# Altium schematic symbol library parallella_schematic_Library.SchLib: 113 symbols (part 3 of 3)
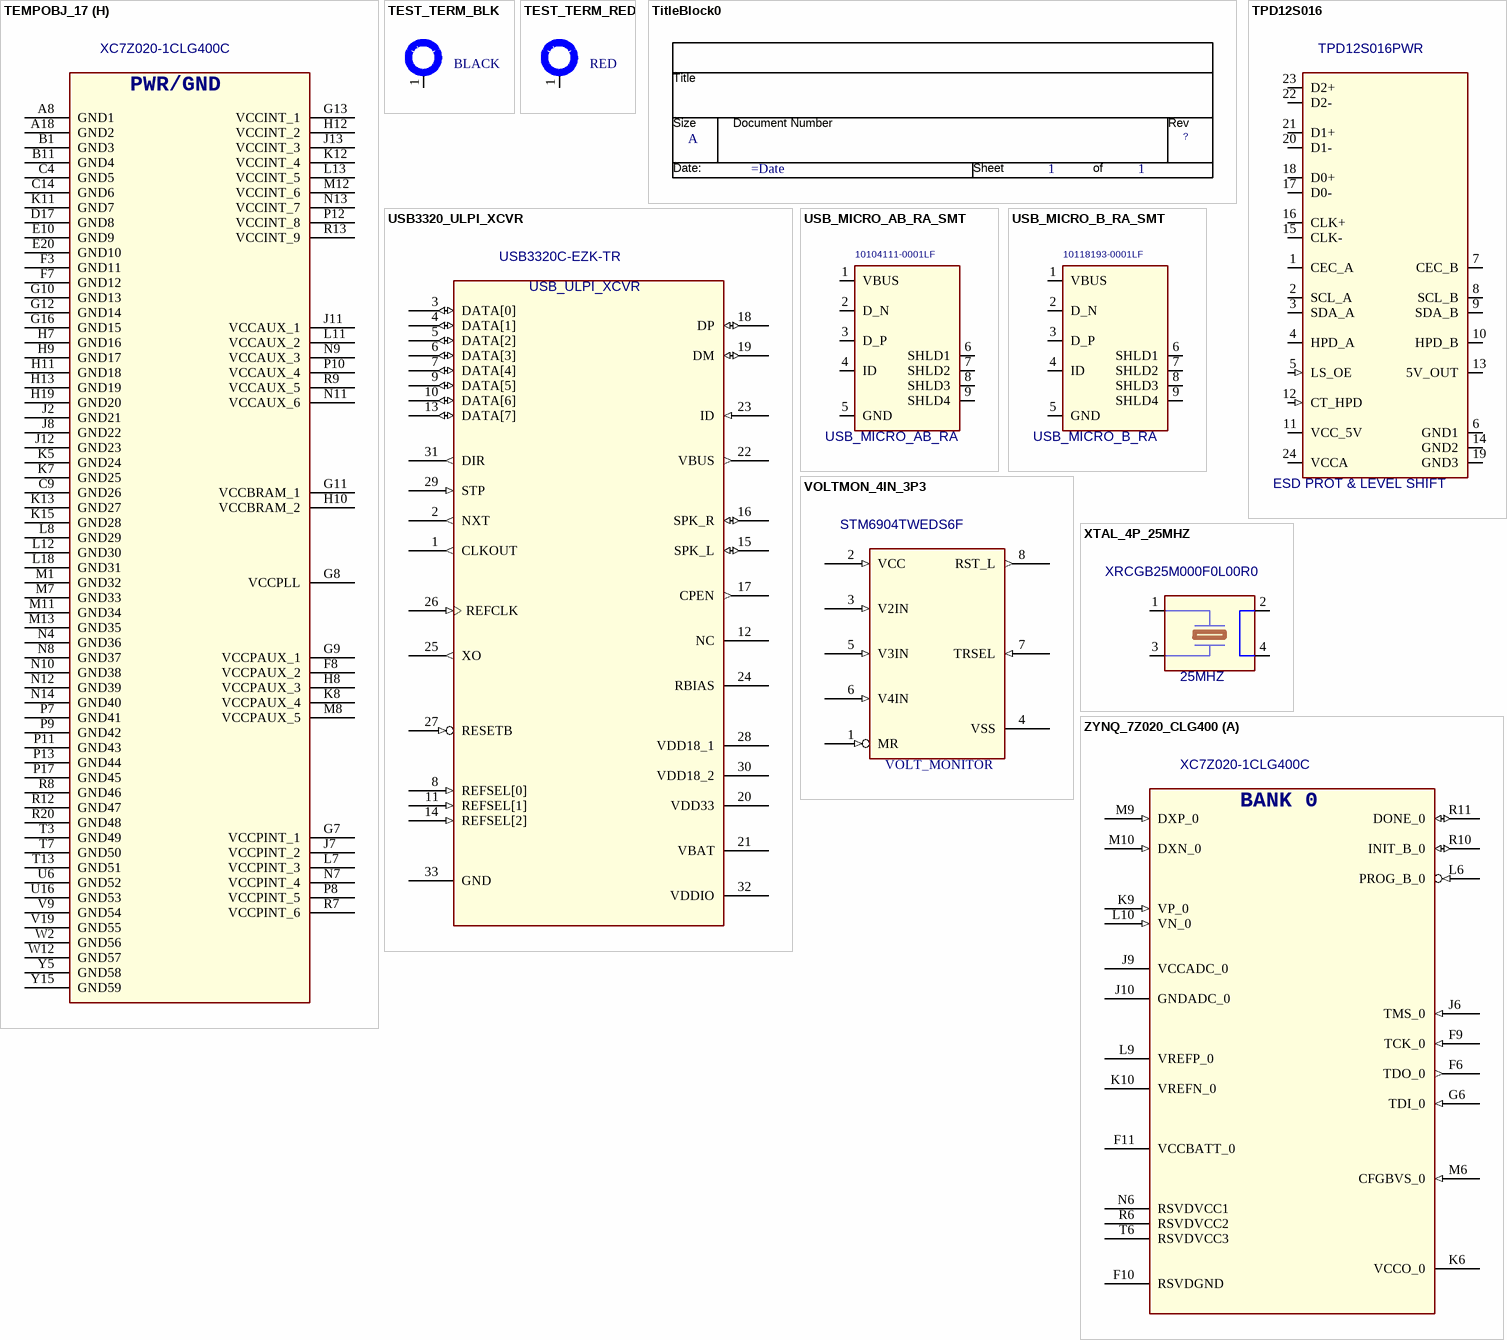
[diagram p25: symbols TEMPOBJ_17 to ZYNQ_7Z020_CLG400]

## TEMPOBJ_17
designator U?, comment Vendor PN: XC7Z020-1CLG400C  (hidden comment: 7Z020-CLG400)
IC, EPP, XILINX, ZYNQ, 7Z020, CLG400; SPLIT_INST: TRUE; DEVICE: ZYNQ_7Z020_CLG400; Vendor: XILINX
footprint CBGA400_17SQ_1P6H_P8MMP
part A pins: F6 TDO_0 (out), F9 TCK_0 (in), F10 RSVDGND (power), F11 VCCBATT_0 (power), G6 TDI_0 (in), J6 TMS_0 (in), J9 VCCADC_0 (power), J10 GNDADC_0 (power), K6 VCCO_0 (power), K9 VP_0 (in), K10 VREFN_0 (power), L6 PROG_B_0 (in), L9 VREFP_0 (power), L10 VN_0 (in), M6 CFGBVS_0 (in), M9 DXP_0 (in), M10 DXN_0 (in), N6 RSVDVCC1, R6 RSVDVCC2, R10 INIT_B_0 (io), R11 DONE_0 (io), T6 RSVDVCC3
part B pins: A5 PS_MIO6 (io), A6 PS_MIO5 (io), A7 PS_MIO1 (io), B5 PS_MIO9 (io), B6 VCCO_MIO0_1 (power), B7 PS_MIO4 (io), B8 PS_MIO2 (io), C5 PS_MIO14 (io), C6 PS_MIO11 (io), C7 PS_POR_B (in), C8 PS_MIO15 (io), D5 PS_MIO8 (io), D6 PS_MIO3 (io), D7 VCCO_MIO0_2 (power), D8 PS_MIO7 (io), D9 PS_MIO12 (io), E6 PS_MIO0 (io), E7 PS_CLK (in), E8 PS_MIO13 (io), E9 PS_MIO10 (io)
part C pins: A9 PS_MIO43 (io), A10 PS_MIO37 (io), A11 PS_MIO36 (io), A12 PS_MIO34 (io), A13 VCCO_MIO1_1 (power), A14 PS_MIO32 (io), A15 PS_MIO26 (io), A16 PS_MIO24 (io), A17 PS_MIO20 (io), A19 PS_MIO16 (io), B9 PS_MIO51 (io), B10 PS_SRST_B (in), B12 PS_MIO48 (io), B13 PS_MIO50 (io), B14 PS_MIO47 (io), B15 PS_MIO45 (io), B16 VCCO_MIO1_2 (power), B17 PS_MIO22 (io), B18 PS_MIO18 (io), C10 PS_MIO52 (io), C11 PS_MIO53 (io), C12 PS_MIO49 (io), C13 PS_MIO29 (io), C15 PS_MIO30 (io), C16 PS_MIO28 (io), C17 PS_MIO41 (io), C18 PS_MIO39 (io), D10 PS_MIO19 (io), D11 PS_MIO23 (io), D12 VCCO_MIO1_3 (power), D13 PS_MIO27 (io), D14 PS_MIO40 (io), D15 PS_MIO33 (io), D16 PS_MIO46 (io), E11 PS_MIO_VREF_501 (power), E12 PS_MIO42 (io), E13 PS_MIO38 (io), E14 PS_MIO17 (io), E15 VCCO_MIO1_4 (power), E16 PS_MIO31 (io), F12 PS_MIO35 (io), F13 PS_MIO44 (io), F14 PS_MIO21 (io), F15 PS_MIO25 (io)
part D pins: A1 PS_DDR_DM0 (out), A2 PS_DDR_DQ2 (io), A3 VCCO_DDR_1 (power), A4 PS_DDR_DQ3 (io), B2 PS_DDR_DQS_N0 (io), B3 PS_DDR_DQ1 (io), B4 PS_DDR_DRST_B (out), C1 PS_DDR_DQ6 (io), C2 PS_DDR_DQS_P0 (io), C3 PS_DDR_DQ0 (io), D1 PS_DDR_DQ5 (io), D2 VCCO_DDR_2 (power), D3 PS_DDR_DQ4 (io), D4 PS_DDR_A13 (out), E1 PS_DDR_DQ7 (io), E2 PS_DDR_DQ8 (io), E3 PS_DDR_DQ9 (io), E4 PS_DDR_A12 (out), E5 VCCO_DDR_3 (power), F1 PS_DDR_DM1 (out), F2 PS_DDR_DQS_N1 (io), F4 PS_DDR_A14 (out), F5 PS_DDR_A10 (out), G1 VCCO_DDR_4 (power), G2 PS_DDR_DQS_P1 (io), G3 PS_DDR_DQ10 (io), G4 PS_DDR_A11 (out), G5 PS_DDR_VRN (power), H1 PS_DDR_DQ14 (io), H2 PS_DDR_DQ13 (io), H3 PS_DDR_DQ11 (io), H4 VCCO_DDR_5 (power), H5 PS_DDR_VRP (power), H6 PS_DDR_VREF0 (power), J1 PS_DDR_DQ15 (io), J3 PS_DDR_DQ12 (io), J4 PS_DDR_A9 (out), J5 PS_DDR_BA2 (out), K1 PS_DDR_A8 (out), K2 PS_DDR_A1 (out), K3 PS_DDR_A3 (out), K4 PS_DDR_A7 (out), L1 PS_DDR_A5 (out), L2 PS_DDR_CKP (out), L3 VCCO_DDR_6 (power), L4 PS_DDR_A6 (out), L5 PS_DDR_BA0 (out), M2 PS_DDR_CKN (out), M3 PS_DDR_A2 (out), M4 PS_DDR_A4 (out), M5 PS_DDR_WE_B (out), N1 PS_DDR_CS_B (out), N2 PS_DDR_A0 (out), N3 PS_DDR_CKE (out), N5 PS_DDR_ODT (out), P1 PS_DDR_DQ16 (io), P2 VCCO_DDR_7 (power), P3 PS_DDR_DQ17 (io), P4 PS_DDR_RAS_B (out), P5 PS_DDR_CAS_B (out), P6 PS_DDR_VREF1 (power), R1 PS_DDR_DQ19 (io), R2 PS_DDR_DQS_P2 (io), R3 PS_DDR_DQ18 (io), R4 PS_DDR_BA1 (out), R5 VCCO_DDR_8 (power), T1 PS_DDR_DM2 (out), T2 PS_DDR_DQS_N2 (io), T4 PS_DDR_DQ20 (io), U1 VCCO_DDR_9 (power), U2 PS_DDR_DQ22 (io), U3 PS_DDR_DQ23 (io), U4 PS_DDR_DQ21 (io), V1 PS_DDR_DQ24 (io), V2 PS_DDR_DQ30 (io), V3 PS_DDR_DQ31 (io), V4 VCCO_DDR_10 (power), W1 PS_DDR_DQ26 (io), W3 PS_DDR_DQ29 (io), W4 PS_DDR_DQS_N3 (io), W5 PS_DDR_DQS_P3 (io), Y1 PS_DDR_DM3 (out), Y2 PS_DDR_DQ28 (io), Y3 PS_DDR_DQ25 (io), Y4 PS_DDR_DQ27 (io)
part E pins: T5 IO_L19P_T3_13 (io), T8 VCCO_13_1 (power), T9 IO_L12P_T1_MRCC_13 (io), U5 IO_L19N_T3_VREF_13 (io), U7 IO_L11P_T1_SRCC_13 (io), U8 IO_L17N_T2_13 (io), U9 IO_L17P_T2_13 (io), U10 IO_L12N_T1_MRCC_13 (io), U11 VCCO_13_2 (power), V5 IO_L6N_T0_VREF_13 (io), V6 IO_L22P_T3_13 (io), V7 IO_L11N_T1_SRCC_13 (io), V8 IO_L15P_T2_DQS_13 (io), V10 IO_L21N_T3_DQS_13 (io), V11 IO_L21P_T3_DQS_13 (io), W6 IO_L22N_T3_13 (io), W7 VCCO_13_3 (power), W8 IO_L15N_T2_DQS_13 (io), W9 IO_L16N_T2_13 (io), W10 IO_L16P_T2_13 (io), W11 IO_L18P_T2_13 (io), Y6 IO_L13N_T2_MRCC_13 (io), Y7 IO_L13P_T2_MRCC_13 (io), Y8 IO_L14N_T2_SRCC_13 (io), Y9 IO_L14P_T2_SRCC_13 (io), Y10 VCCO_13_4 (power), Y11 IO_L18N_T2_13 (io), Y12 IO_L20P_T3_13 (io), Y13 IO_L20N_T3_13 (io)
part F pins: N17 IO_L23P_T3_34 (io), N18 IO_L13P_T2_MRCC_34 (io), N19 VCCO_34_1 (power), N20 IO_L14P_T2_SRCC_34 (io), P14 IO_L6P_T0_34 (io), P15 IO_L24P_T3_34 (io), P16 IO_L24N_T3_34 (io), P18 IO_L23N_T3_34 (io), P19 IO_L13N_T2_MRCC_34 (io), P20 IO_L14N_T2_SRCC_34 (io), R14 IO_L6N_T0_VREF_34 (io), R15 VCCO_34_2 (power), R16 IO_L19P_T3_34 (io), R17 IO_L19N_T3_VREF_34 (io), R18 IO_L20N_T3_34 (io), R19 IO_0_34 (io), T10 IO_L1N_T0_34 (io), T11 IO_L1P_T0_34 (io), T12 IO_L2P_T0_34 (io), T14 IO_L5P_T0_34 (io), T15 IO_L5N_T0_34 (io), T16 IO_L9P_T1_DQS_34 (io), T17 IO_L20P_T3_34 (io), T18 VCCO_34_3 (power), T19 IO_25_34 (io), T20 IO_L15P_T2_DQS_34 (io), U12 IO_L2N_T0_34 (io), U13 IO_L3P_T0_DQS_PUDC_B_34 (io), U14 IO_L11P_T1_SRCC_34 (io), U15 IO_L11N_T1_SRCC_34 (io), U17 IO_L9N_T1_DQS_34 (io), U18 IO_L12P_T1_MRCC_34 (io), U19 IO_L12N_T1_MRCC_34 (io), U20 IO_L15N_T2_DQS_34 (io), V12 IO_L4P_T0_34 (io), V13 IO_L3N_T0_DQS_34 (io), V14 VCCO_34_4 (power), V15 IO_L10P_T1_34 (io), V16 IO_L18P_T2_34 (io), V17 IO_L21P_T3_DQS_34 (io), V18 IO_L21N_T3_DQS_34 (io), V20 IO_L16P_T2_34 (io), W13 IO_L4N_T0_34 (io), W14 IO_L8P_T1_34 (io), W15 IO_L10N_T1_34 (io), W16 IO_L18N_T2_34 (io), W17 VCCO_34_5 (power), W18 IO_L22P_T3_34 (io), W19 IO_L22N_T3_34 (io), W20 IO_L16N_T2_34 (io), Y14 IO_L8N_T1_34 (io), Y16 IO_L7P_T1_34 (io), Y17 IO_L7N_T1_34 (io), Y18 IO_L17P_T2_34 (io), Y19 IO_L17N_T2_34 (io), Y20 VCCO_34_6 (power)
part G pins: A20 IO_L2N_T0_AD8N_35 (io), B19 IO_L2P_T0_AD8P_35 (io), B20 IO_L1N_T0_AD0N_35 (io), C19 VCCO_35_1 (power), C20 IO_L1P_T0_AD0P_35 (io), D18 IO_L3N_T0_DQS_AD1N_35 (io), D19 IO_L4P_T0_35 (io), D20 IO_L4N_T0_35 (io), E17 IO_L3P_T0_DQS_AD1P_35 (io), E18 IO_L5P_T0_AD9P_35 (io), E19 IO_L5N_T0_AD9N_35 (io), F16 IO_L6P_T0_35 (io), F17 IO_L6N_T0_VREF_35 (io), F18 VCCO_35_2 (power), F19 IO_L15P_T2_DQS_AD12P_35 (io), F20 IO_L15N_T2_DQS_AD12N_35 (io), G14 IO_0_35 (io), G15 IO_L19N_T3_VREF_35 (io), G17 IO_L16P_T2_35 (io), G18 IO_L16N_T2_35 (io), G19 IO_L18P_T2_AD13P_35 (io), G20 IO_L18N_T2_AD13N_35 (io), H14 VCCO_35_3 (power), H15 IO_L19P_T3_35 (io), H16 IO_L13P_T2_MRCC_35 (io), H17 IO_L13N_T2_MRCC_35 (io), H18 IO_L14N_T2_AD4N_SRCC_35 (io), H20 IO_L17N_T2_AD5N_35 (io), J14 IO_L20N_T3_AD6N_35 (io), J15 IO_25_34 (io), J16 IO_L24N_T3_AD15N_35 (io), J17 VCCO_35_4 (power), J18 IO_L14P_T2_AD4P_SRCC_35 (io), J19 IO_L10N_T1_AD11N_35 (io), J20 IO_L17P_T2_AD5P_35 (io), K14 IO_L20P_T3_AD6P_35 (io), K16 IO_L24P_T3_AD15P_35 (io), K17 IO_L12P_T1_MRCC_35 (io), K18 IO_L12N_T1_MRCC_35 (io), K19 IO_L10P_T1_AD11P_35 (io), K20 VCCO_35_5 (power), L14 IO_L22P_T3_AD7P_35 (io), L15 IO_L22N_T3_AD7N_35 (io), L16 IO_L11P_T1_SRCC_35 (io), L17 IO_L11N_T1_SRCC_35 (io), L19 IO_L9P_T1_DQS_AD3P_35 (io), L20 IO_L9N_T1_DQS_AD3N_35 (io), M14 IO_L23P_T3_35 (io), M15 IO_L23N_T3_35 (io), M16 VCCO_35_6 (power), M17 IO_L8P_T1_AD10P_35 (io), M18 IO_L8N_T1_AD10N_35 (io), M19 IO_L7P_T1_AD2P_35 (io), M20 IO_L7N_T1_AD2N_35 (io), N15 IO_L21P_T3_DQS_AD14P_35 (io), N16 IO_L21N_T3_DQS_AD14N_35 (io)
part H pins: A8 GND1 (power), A18 GND2 (power), B1 GND3 (power), B11 GND4 (power), C4 GND5 (power), C9 GND26 (power), C14 GND6 (power), D17 GND8 (power), E10 GND9 (power), E20 GND10 (power), F3 GND11 (power), F7 GND12 (power), F8 VCCPAUX_2 (power), G7 VCCPINT_1 (power), G8 VCCPLL (power), G9 VCCPAUX_1 (power), G10 GND13 (power), G11 VCCBRAM_1 (power), G12 GND14 (power), G13 VCCINT_1 (power), G16 GND15 (power), H7 GND16 (power), H8 VCCPAUX_3 (power), H9 GND17 (power), H10 VCCBRAM_2 (power), H11 GND18 (power), H12 VCCINT_2 (power), H13 GND19 (power), H19 GND20 (power), J2 GND21 (power), J7 VCCPINT_2 (power), J8 GND22 (power), J11 VCCAUX_1 (power), J12 GND23 (power), J13 VCCINT_3 (power), K5 GND24 (power), K7 GND25 (power), K8 VCCPAUX_4 (power), K11 GND7 (power), K12 VCCINT_4 (power), K13 GND27 (power), K15 GND28 (power), L7 VCCPINT_3 (power), L8 GND29 (power), L11 VCCAUX_2 (power), L12 GND30 (power), L13 VCCINT_5 (power), L18 GND31 (power), M1 GND32 (power), M7 GND33 (power), M8 VCCPAUX_5 (power), M11 GND34 (power), M12 VCCINT_6 (power), M13 GND35 (power), N4 GND36 (power), N7 VCCPINT_4 (power), N8 GND37 (power), N9 VCCAUX_3 (power), N10 GND38 (power), N11 VCCAUX_6 (power), N12 GND39 (power), N13 VCCINT_7 (power), N14 GND40 (power), P7 GND41 (power), P8 VCCPINT_5 (power), P9 GND42 (power), P10 VCCAUX_4 (power), P11 GND43 (power), P12 VCCINT_8 (power), P13 GND44 (power), P17 GND45 (power), R7 VCCPINT_6 (power), R8 GND46 (power), R9 VCCAUX_5 (power), R12 GND47 (power), R13 VCCINT_9 (power), R20 GND48 (power), T3 GND49 (power), T7 GND50 (power), T13 GND51 (power), U6 GND52 (power), U16 GND53 (power), V9 GND54 (power), V19 GND55 (power), W2 GND56 (power), W12 GND57 (power), Y5 GND58 (power), Y15 GND59 (power)
part A text: BANK 0
part B text: BANK 500; QSPI; SDIO
part C text: BANK 501; Ethernet 0 RGMII; USB0/ Ethernet1; USB1
part D text: BANK 502
part E text: BANK 13
part F text: BANK 34
part G text: BANK 35
part H text: PWR/GND

## TEST_TERM_BLK
designator TP?, comment BLACK
PC Test Point Miniature; Vendor PN: 5001; Vendor: Keystone; CLASS: IC; DEVICE: TEST_TERM_BLK; MFG: KEYSTONE; MFG PART NO: 5001
footprint TP55
pins: 1

## TEST_TERM_RED
designator TP?, comment RED
PC TEST POINT MINIATURE; MFG PART NO: 5000; MFG: KEYSTONE; DEVICE: TEST_TERM_RED; CLASS: IC; Vendor: KEYSTONE; Vendor PN: 5000
footprint TP55
pins: 1

## TitleBlock0
designator *  Page Size: A  Page Number: 1  (hidden comment: *)  (graphical)
Page Create Date: March  8, 1995; RevCode: ?; Page Count: 1; Page Modify Date: =Date
text: Title; Size; Document Number; Rev; Date:; Sheet; of

## TPD12S016
designator U?, comment ESD PROT & LEVEL SHIFT  MFG PART NO: TPD12S016PWR
IC, HDMI ESD PROT AND LEVEL SHIFT, TSSOP24; Vendor: TEXAS INSTRUMENTS; DEVICE: TPD12S016; Vendor PN: TPD12S016PWR; MFG: TEXAS INSTRUMENTS
footprint TSSOP24_6P4X7P9X1P2MMH_P65P
pins: 1 CEC_A (io), 2 SCL_A (io), 3 SDA_A (io), 4 HPD_A (io), 5 LS_OE (in), 6 GND1 (power), 7 CEC_B (io), 8 SCL_B (io), 9 SDA_B (io), 10 HPD_B (io), 11 VCC_5V (power), 12 CT_HPD (in), 13 5V_OUT (power), 14 GND2 (power), 15 CLK- (io), 16 CLK+ (io), 17 D0- (io), 18 D0+ (io), 19 GND3 (power), 20 D1- (io), 21 D1+ (io), 22 D2- (io), 23 D2+ (io), 24 VCCA (power)

## USB3320_ULPI_XCVR
designator U?, comment USB_ULPI_XCVR  Vendor PN: USB3320C-EZK-TR
IC, USB ULPI XCVR, SINGLE SUPPLY, QFN32; DEVICE: USB3320_ULPI_XCVR; Vendor: SMSC
footprint QFN32_5SQXP9H_P5MMP_3P45PAD
pins: 1 CLKOUT (out), 2 NXT (out), 3 DATA[0] (io), 4 DATA[1] (io), 5 DATA[2] (io), 6 DATA[3] (io), 7 DATA[4] (io), 8 REFSEL[0] (in), 9 DATA[5] (io), 10 DATA[6] (io), 11 REFSEL[1] (in), 12 NC, 13 DATA[7] (io), 14 REFSEL[2] (in), 15 SPK_L (io), 16 SPK_R (io), 17 CPEN (out), 18 DP (io), 19 DM (io), 20 VDD33 (power), 21 VBAT (power), 22 VBUS (out), 23 ID (in), 24 RBIAS, 25 XO (out), 26 REFCLK (in), 27 RESETB (in), 28 VDD18_1 (power), 29 STP (in), 30 VDD18_2 (power), 31 DIR (out), 32 VDDIO (power), 33 GND (power)

## USB_MICRO_AB_RA_SMT
designator J?, comment USB_MICRO_AB_RA  MFG PART NO: 10104111-0001LF
CONN, USB, RCPT, MICRO AB, RA, SMT; MFG: FCI; DEVICE: USB_MICRO_AB_RA_SMT; Vendor: FCI; Vendor PN: 10104111-0001LF
footprint USB_MICRO5P_5X7X3P07MMH
pins: 1 VBUS, 2 D_N, 3 D_P, 4 ID, 5 GND, 6 SHLD1, 7 SHLD2, 8 SHLD3, 9 SHLD4

## USB_MICRO_B_RA_SMT
designator J?, comment USB_MICRO_B_RA  MFG PART NO: 10118193-0001LF
CONN, USB, RCPT, MICRO B, RA, SMT; MFG: FCI; DEVICE: USB_MICRO_B_RA_SMT; Vendor: FCI; Vendor PN: 10118193-0001LF
footprint USB_MICROB_5P05X7P86X3P1MM_RH
pins: 1 VBUS, 2 D_N, 3 D_P, 4 ID, 5 GND, 6 SHLD1, 7 SHLD2, 8 SHLD3, 9 SHLD4

## VOLTMON_4IN_3P3
designator U?, comment VOLT_MONITOR  MFG PART NO: STM6904TWEDS6F
IC,  SUPPLY MONITOR, 4 INPUTS, TSSOP8; MFG: ST MICROELECTRONICS; DEVICE: VOLTMON_4IN_3P3; Vendor: ST MICROELECTRONICS; Vendor PN: STM6904TWEDS6F
footprint TSSOP8_3SQX1P1H_P65P
pins: 1 MR (in), 2 VCC (in), 3 V2IN (in), 4 VSS (power), 5 V3IN (in), 6 V4IN (in), 7 TRSEL (in), 8 RST_L (out)

## XTAL_4P_25MHZ
designator Y?, comment 25MHZ  Vendor PN: XRCGB25M000F0L00R0
XTAL, 2X1.6MM, 25MHZ, 4PIN, SMT; DEVICE: XTAL_4P_25MHZ; Vendor: MURATA
footprint OSC4_1P6X2X7MMH
pins: 1, 2, 3, 4

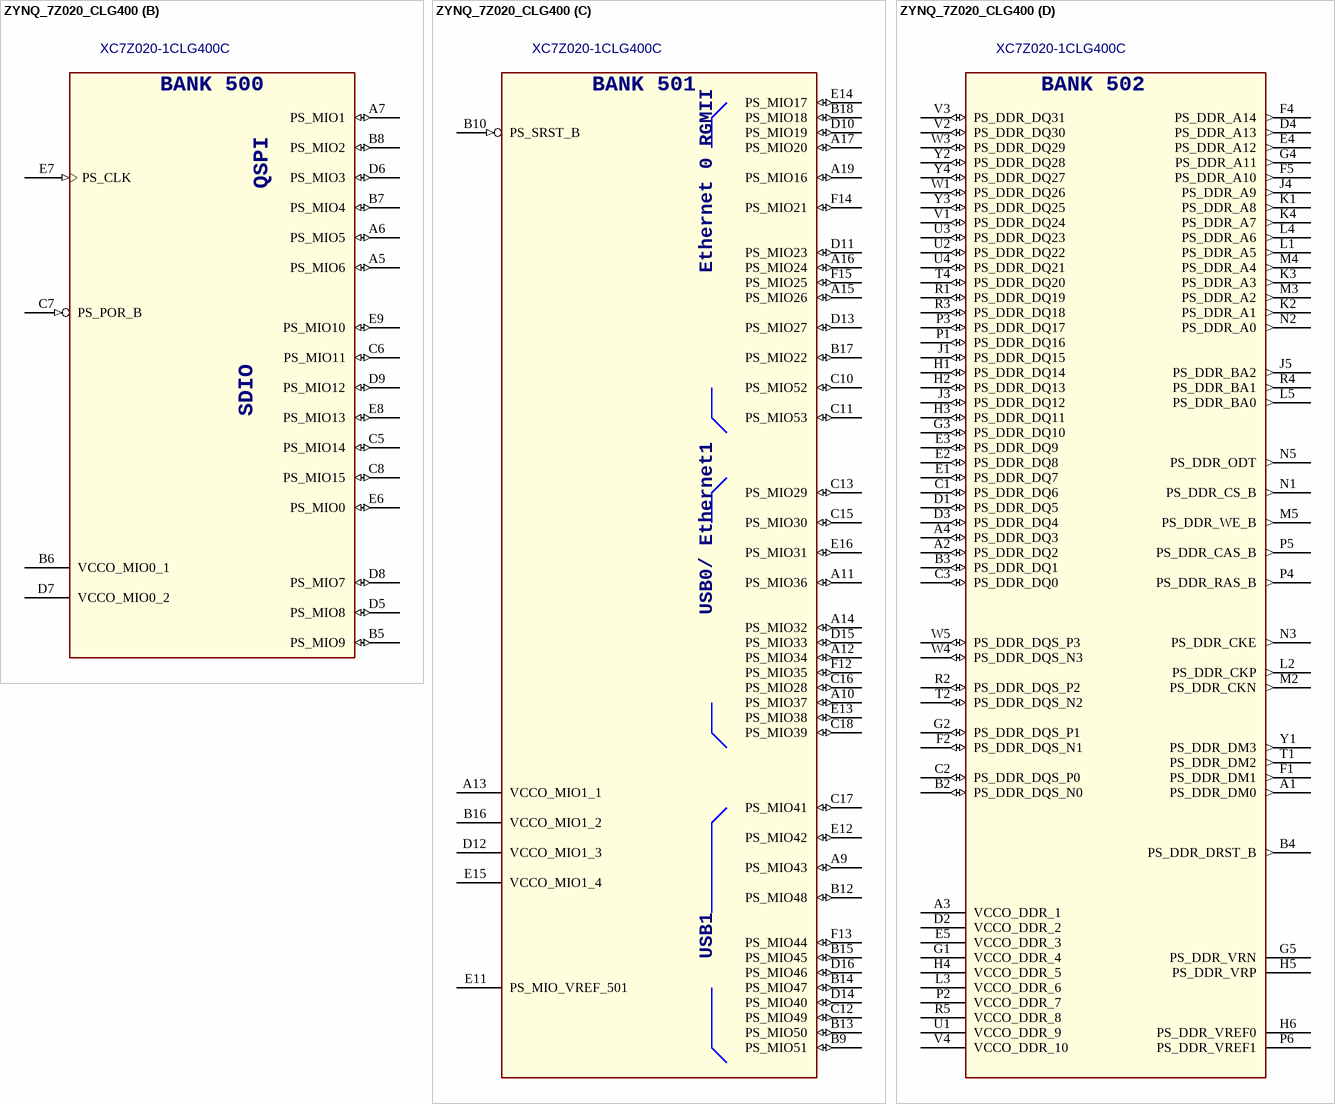
[diagram p21: symbol ZYNQ_7Z020_CLG400]

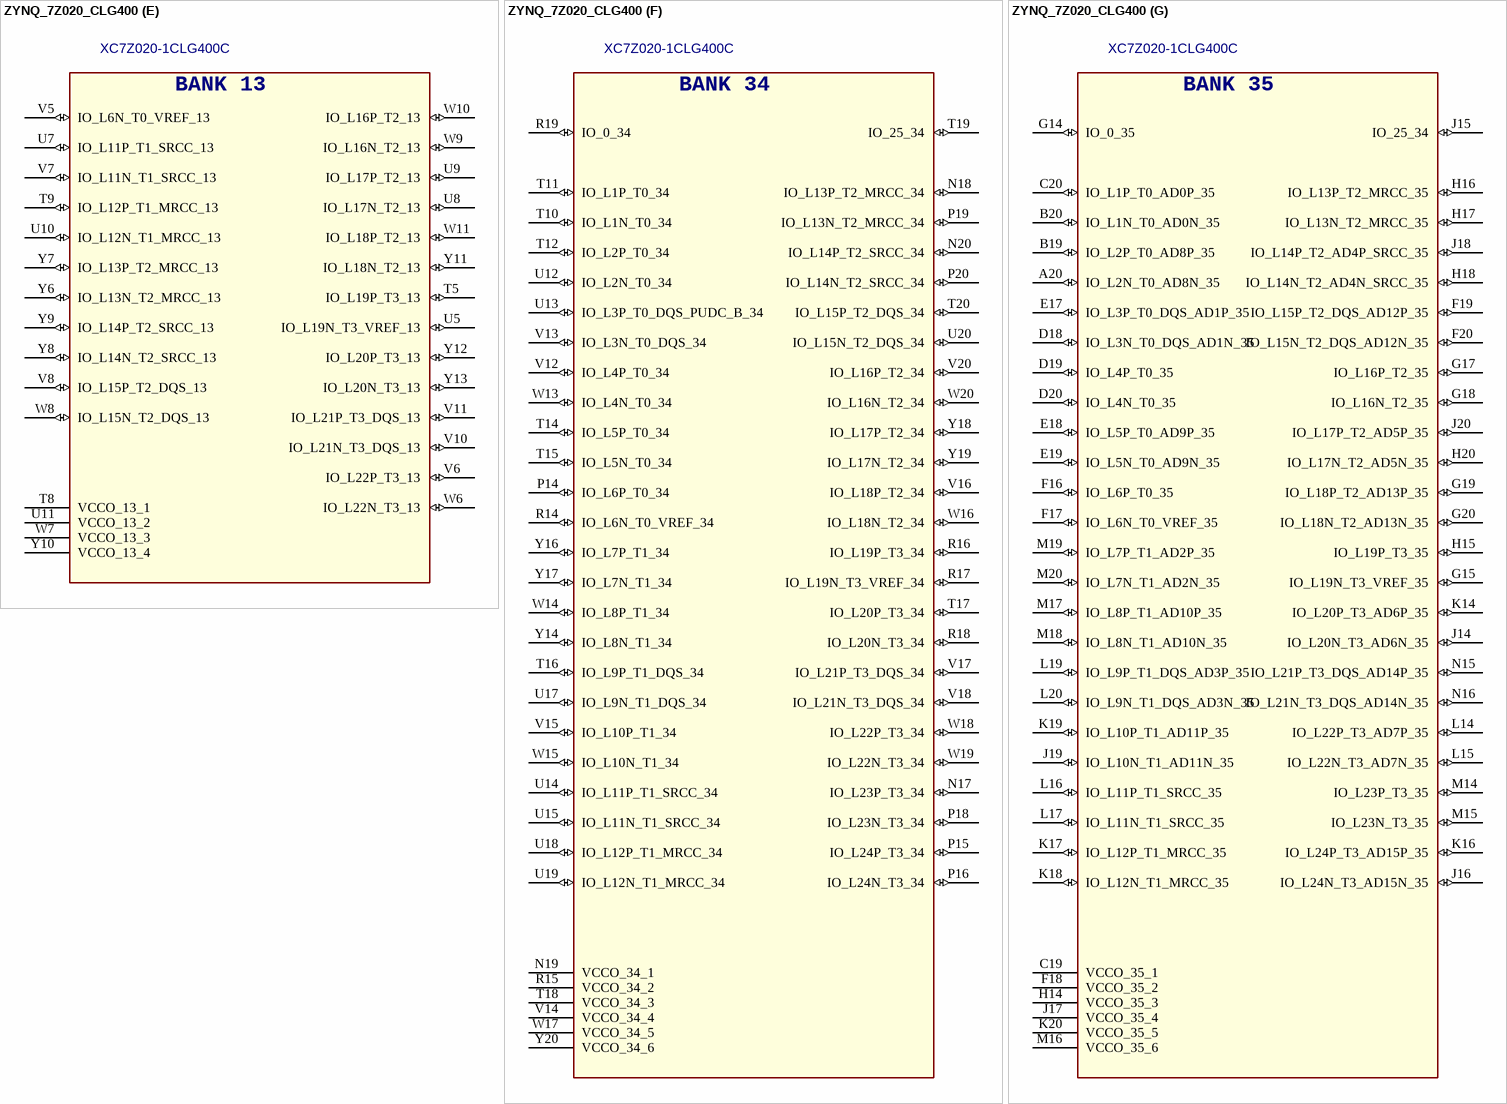
[diagram p22: symbol ZYNQ_7Z020_CLG400]

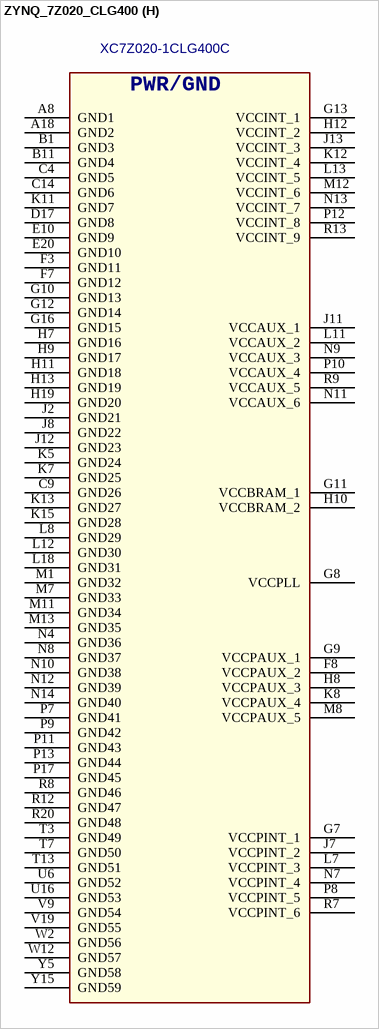
[diagram p23: symbol ZYNQ_7Z020_CLG400]

## ZYNQ_7Z020_CLG400
designator U?, comment Vendor PN: XC7Z020-1CLG400C  (hidden comment: 7Z020-CLG400)
IC, EPP, XILINX, ZYNQ, 7Z020, CLG400; DEVICE: ZYNQ_7Z020_CLG400; SPLIT_INST: TRUE; Vendor: XILINX
footprint CBGA400_17SQ_1P6H_P8MMP
part A pins: F6 TDO_0 (out), F9 TCK_0 (in), F10 RSVDGND (power), F11 VCCBATT_0 (power), G6 TDI_0 (in), J6 TMS_0 (in), J9 VCCADC_0 (power), J10 GNDADC_0 (power), K6 VCCO_0 (power), K9 VP_0 (in), K10 VREFN_0 (power), L6 PROG_B_0 (in), L9 VREFP_0 (power), L10 VN_0 (in), M6 CFGBVS_0 (in), M9 DXP_0 (in), M10 DXN_0 (in), N6 RSVDVCC1, R6 RSVDVCC2, R10 INIT_B_0 (io), R11 DONE_0 (io), T6 RSVDVCC3
part B pins: A5 PS_MIO6 (io), A6 PS_MIO5 (io), A7 PS_MIO1 (io), B5 PS_MIO9 (io), B6 VCCO_MIO0_1 (power), B7 PS_MIO4 (io), B8 PS_MIO2 (io), C5 PS_MIO14 (io), C6 PS_MIO11 (io), C7 PS_POR_B (in), C8 PS_MIO15 (io), D5 PS_MIO8 (io), D6 PS_MIO3 (io), D7 VCCO_MIO0_2 (power), D8 PS_MIO7 (io), D9 PS_MIO12 (io), E6 PS_MIO0 (io), E7 PS_CLK (in), E8 PS_MIO13 (io), E9 PS_MIO10 (io)
part C pins: A9 PS_MIO43 (io), A10 PS_MIO37 (io), A11 PS_MIO36 (io), A12 PS_MIO34 (io), A13 VCCO_MIO1_1 (power), A14 PS_MIO32 (io), A15 PS_MIO26 (io), A16 PS_MIO24 (io), A17 PS_MIO20 (io), A19 PS_MIO16 (io), B9 PS_MIO51 (io), B10 PS_SRST_B (in), B12 PS_MIO48 (io), B13 PS_MIO50 (io), B14 PS_MIO47 (io), B15 PS_MIO45 (io), B16 VCCO_MIO1_2 (power), B17 PS_MIO22 (io), B18 PS_MIO18 (io), C10 PS_MIO52 (io), C11 PS_MIO53 (io), C12 PS_MIO49 (io), C13 PS_MIO29 (io), C15 PS_MIO30 (io), C16 PS_MIO28 (io), C17 PS_MIO41 (io), C18 PS_MIO39 (io), D10 PS_MIO19 (io), D11 PS_MIO23 (io), D12 VCCO_MIO1_3 (power), D13 PS_MIO27 (io), D14 PS_MIO40 (io), D15 PS_MIO33 (io), D16 PS_MIO46 (io), E11 PS_MIO_VREF_501 (power), E12 PS_MIO42 (io), E13 PS_MIO38 (io), E14 PS_MIO17 (io), E15 VCCO_MIO1_4 (power), E16 PS_MIO31 (io), F12 PS_MIO35 (io), F13 PS_MIO44 (io), F14 PS_MIO21 (io), F15 PS_MIO25 (io)
part D pins: A1 PS_DDR_DM0 (out), A2 PS_DDR_DQ2 (io), A3 VCCO_DDR_1 (power), A4 PS_DDR_DQ3 (io), B2 PS_DDR_DQS_N0 (io), B3 PS_DDR_DQ1 (io), B4 PS_DDR_DRST_B (out), C1 PS_DDR_DQ6 (io), C2 PS_DDR_DQS_P0 (io), C3 PS_DDR_DQ0 (io), D1 PS_DDR_DQ5 (io), D2 VCCO_DDR_2 (power), D3 PS_DDR_DQ4 (io), D4 PS_DDR_A13 (out), E1 PS_DDR_DQ7 (io), E2 PS_DDR_DQ8 (io), E3 PS_DDR_DQ9 (io), E4 PS_DDR_A12 (out), E5 VCCO_DDR_3 (power), F1 PS_DDR_DM1 (out), F2 PS_DDR_DQS_N1 (io), F4 PS_DDR_A14 (out), F5 PS_DDR_A10 (out), G1 VCCO_DDR_4 (power), G2 PS_DDR_DQS_P1 (io), G3 PS_DDR_DQ10 (io), G4 PS_DDR_A11 (out), G5 PS_DDR_VRN (power), H1 PS_DDR_DQ14 (io), H2 PS_DDR_DQ13 (io), H3 PS_DDR_DQ11 (io), H4 VCCO_DDR_5 (power), H5 PS_DDR_VRP (power), H6 PS_DDR_VREF0 (power), J1 PS_DDR_DQ15 (io), J3 PS_DDR_DQ12 (io), J4 PS_DDR_A9 (out), J5 PS_DDR_BA2 (out), K1 PS_DDR_A8 (out), K2 PS_DDR_A1 (out), K3 PS_DDR_A3 (out), K4 PS_DDR_A7 (out), L1 PS_DDR_A5 (out), L2 PS_DDR_CKP (out), L3 VCCO_DDR_6 (power), L4 PS_DDR_A6 (out), L5 PS_DDR_BA0 (out), M2 PS_DDR_CKN (out), M3 PS_DDR_A2 (out), M4 PS_DDR_A4 (out), M5 PS_DDR_WE_B (out), N1 PS_DDR_CS_B (out), N2 PS_DDR_A0 (out), N3 PS_DDR_CKE (out), N5 PS_DDR_ODT (out), P1 PS_DDR_DQ16 (io), P2 VCCO_DDR_7 (power), P3 PS_DDR_DQ17 (io), P4 PS_DDR_RAS_B (out), P5 PS_DDR_CAS_B (out), P6 PS_DDR_VREF1 (power), R1 PS_DDR_DQ19 (io), R2 PS_DDR_DQS_P2 (io), R3 PS_DDR_DQ18 (io), R4 PS_DDR_BA1 (out), R5 VCCO_DDR_8 (power), T1 PS_DDR_DM2 (out), T2 PS_DDR_DQS_N2 (io), T4 PS_DDR_DQ20 (io), U1 VCCO_DDR_9 (power), U2 PS_DDR_DQ22 (io), U3 PS_DDR_DQ23 (io), U4 PS_DDR_DQ21 (io), V1 PS_DDR_DQ24 (io), V2 PS_DDR_DQ30 (io), V3 PS_DDR_DQ31 (io), V4 VCCO_DDR_10 (power), W1 PS_DDR_DQ26 (io), W3 PS_DDR_DQ29 (io), W4 PS_DDR_DQS_N3 (io), W5 PS_DDR_DQS_P3 (io), Y1 PS_DDR_DM3 (out), Y2 PS_DDR_DQ28 (io), Y3 PS_DDR_DQ25 (io), Y4 PS_DDR_DQ27 (io)
part E pins: T5 IO_L19P_T3_13 (io), T8 VCCO_13_1 (power), T9 IO_L12P_T1_MRCC_13 (io), U5 IO_L19N_T3_VREF_13 (io), U7 IO_L11P_T1_SRCC_13 (io), U8 IO_L17N_T2_13 (io), U9 IO_L17P_T2_13 (io), U10 IO_L12N_T1_MRCC_13 (io), U11 VCCO_13_2 (power), V5 IO_L6N_T0_VREF_13 (io), V6 IO_L22P_T3_13 (io), V7 IO_L11N_T1_SRCC_13 (io), V8 IO_L15P_T2_DQS_13 (io), V10 IO_L21N_T3_DQS_13 (io), V11 IO_L21P_T3_DQS_13 (io), W6 IO_L22N_T3_13 (io), W7 VCCO_13_3 (power), W8 IO_L15N_T2_DQS_13 (io), W9 IO_L16N_T2_13 (io), W10 IO_L16P_T2_13 (io), W11 IO_L18P_T2_13 (io), Y6 IO_L13N_T2_MRCC_13 (io), Y7 IO_L13P_T2_MRCC_13 (io), Y8 IO_L14N_T2_SRCC_13 (io), Y9 IO_L14P_T2_SRCC_13 (io), Y10 VCCO_13_4 (power), Y11 IO_L18N_T2_13 (io), Y12 IO_L20P_T3_13 (io), Y13 IO_L20N_T3_13 (io)
part F pins: N17 IO_L23P_T3_34 (io), N18 IO_L13P_T2_MRCC_34 (io), N19 VCCO_34_1 (power), N20 IO_L14P_T2_SRCC_34 (io), P14 IO_L6P_T0_34 (io), P15 IO_L24P_T3_34 (io), P16 IO_L24N_T3_34 (io), P18 IO_L23N_T3_34 (io), P19 IO_L13N_T2_MRCC_34 (io), P20 IO_L14N_T2_SRCC_34 (io), R14 IO_L6N_T0_VREF_34 (io), R15 VCCO_34_2 (power), R16 IO_L19P_T3_34 (io), R17 IO_L19N_T3_VREF_34 (io), R18 IO_L20N_T3_34 (io), R19 IO_0_34 (io), T10 IO_L1N_T0_34 (io), T11 IO_L1P_T0_34 (io), T12 IO_L2P_T0_34 (io), T14 IO_L5P_T0_34 (io), T15 IO_L5N_T0_34 (io), T16 IO_L9P_T1_DQS_34 (io), T17 IO_L20P_T3_34 (io), T18 VCCO_34_3 (power), T19 IO_25_34 (io), T20 IO_L15P_T2_DQS_34 (io), U12 IO_L2N_T0_34 (io), U13 IO_L3P_T0_DQS_PUDC_B_34 (io), U14 IO_L11P_T1_SRCC_34 (io), U15 IO_L11N_T1_SRCC_34 (io), U17 IO_L9N_T1_DQS_34 (io), U18 IO_L12P_T1_MRCC_34 (io), U19 IO_L12N_T1_MRCC_34 (io), U20 IO_L15N_T2_DQS_34 (io), V12 IO_L4P_T0_34 (io), V13 IO_L3N_T0_DQS_34 (io), V14 VCCO_34_4 (power), V15 IO_L10P_T1_34 (io), V16 IO_L18P_T2_34 (io), V17 IO_L21P_T3_DQS_34 (io), V18 IO_L21N_T3_DQS_34 (io), V20 IO_L16P_T2_34 (io), W13 IO_L4N_T0_34 (io), W14 IO_L8P_T1_34 (io), W15 IO_L10N_T1_34 (io), W16 IO_L18N_T2_34 (io), W17 VCCO_34_5 (power), W18 IO_L22P_T3_34 (io), W19 IO_L22N_T3_34 (io), W20 IO_L16N_T2_34 (io), Y14 IO_L8N_T1_34 (io), Y16 IO_L7P_T1_34 (io), Y17 IO_L7N_T1_34 (io), Y18 IO_L17P_T2_34 (io), Y19 IO_L17N_T2_34 (io), Y20 VCCO_34_6 (power)
part G pins: A20 IO_L2N_T0_AD8N_35 (io), B19 IO_L2P_T0_AD8P_35 (io), B20 IO_L1N_T0_AD0N_35 (io), C19 VCCO_35_1 (power), C20 IO_L1P_T0_AD0P_35 (io), D18 IO_L3N_T0_DQS_AD1N_35 (io), D19 IO_L4P_T0_35 (io), D20 IO_L4N_T0_35 (io), E17 IO_L3P_T0_DQS_AD1P_35 (io), E18 IO_L5P_T0_AD9P_35 (io), E19 IO_L5N_T0_AD9N_35 (io), F16 IO_L6P_T0_35 (io), F17 IO_L6N_T0_VREF_35 (io), F18 VCCO_35_2 (power), F19 IO_L15P_T2_DQS_AD12P_35 (io), F20 IO_L15N_T2_DQS_AD12N_35 (io), G14 IO_0_35 (io), G15 IO_L19N_T3_VREF_35 (io), G17 IO_L16P_T2_35 (io), G18 IO_L16N_T2_35 (io), G19 IO_L18P_T2_AD13P_35 (io), G20 IO_L18N_T2_AD13N_35 (io), H14 VCCO_35_3 (power), H15 IO_L19P_T3_35 (io), H16 IO_L13P_T2_MRCC_35 (io), H17 IO_L13N_T2_MRCC_35 (io), H18 IO_L14N_T2_AD4N_SRCC_35 (io), H20 IO_L17N_T2_AD5N_35 (io), J14 IO_L20N_T3_AD6N_35 (io), J15 IO_25_34 (io), J16 IO_L24N_T3_AD15N_35 (io), J17 VCCO_35_4 (power), J18 IO_L14P_T2_AD4P_SRCC_35 (io), J19 IO_L10N_T1_AD11N_35 (io), J20 IO_L17P_T2_AD5P_35 (io), K14 IO_L20P_T3_AD6P_35 (io), K16 IO_L24P_T3_AD15P_35 (io), K17 IO_L12P_T1_MRCC_35 (io), K18 IO_L12N_T1_MRCC_35 (io), K19 IO_L10P_T1_AD11P_35 (io), K20 VCCO_35_5 (power), L14 IO_L22P_T3_AD7P_35 (io), L15 IO_L22N_T3_AD7N_35 (io), L16 IO_L11P_T1_SRCC_35 (io), L17 IO_L11N_T1_SRCC_35 (io), L19 IO_L9P_T1_DQS_AD3P_35 (io), L20 IO_L9N_T1_DQS_AD3N_35 (io), M14 IO_L23P_T3_35 (io), M15 IO_L23N_T3_35 (io), M16 VCCO_35_6 (power), M17 IO_L8P_T1_AD10P_35 (io), M18 IO_L8N_T1_AD10N_35 (io), M19 IO_L7P_T1_AD2P_35 (io), M20 IO_L7N_T1_AD2N_35 (io), N15 IO_L21P_T3_DQS_AD14P_35 (io), N16 IO_L21N_T3_DQS_AD14N_35 (io)
part H pins: A8 GND1 (power), A18 GND2 (power), B1 GND3 (power), B11 GND4 (power), C4 GND5 (power), C9 GND26 (power), C14 GND6 (power), D17 GND8 (power), E10 GND9 (power), E20 GND10 (power), F3 GND11 (power), F7 GND12 (power), F8 VCCPAUX_2 (power), G7 VCCPINT_1 (power), G8 VCCPLL (power), G9 VCCPAUX_1 (power), G10 GND13 (power), G11 VCCBRAM_1 (power), G12 GND14 (power), G13 VCCINT_1 (power), G16 GND15 (power), H7 GND16 (power), H8 VCCPAUX_3 (power), H9 GND17 (power), H10 VCCBRAM_2 (power), H11 GND18 (power), H12 VCCINT_2 (power), H13 GND19 (power), H19 GND20 (power), J2 GND21 (power), J7 VCCPINT_2 (power), J8 GND22 (power), J11 VCCAUX_1 (power), J12 GND23 (power), J13 VCCINT_3 (power), K5 GND24 (power), K7 GND25 (power), K8 VCCPAUX_4 (power), K11 GND7 (power), K12 VCCINT_4 (power), K13 GND27 (power), K15 GND28 (power), L7 VCCPINT_3 (power), L8 GND29 (power), L11 VCCAUX_2 (power), L12 GND30 (power), L13 VCCINT_5 (power), L18 GND31 (power), M1 GND32 (power), M7 GND33 (power), M8 VCCPAUX_5 (power), M11 GND34 (power), M12 VCCINT_6 (power), M13 GND35 (power), N4 GND36 (power), N7 VCCPINT_4 (power), N8 GND37 (power), N9 VCCAUX_3 (power), N10 GND38 (power), N11 VCCAUX_6 (power), N12 GND39 (power), N13 VCCINT_7 (power), N14 GND40 (power), P7 GND41 (power), P8 VCCPINT_5 (power), P9 GND42 (power), P10 VCCAUX_4 (power), P11 GND43 (power), P12 VCCINT_8 (power), P13 GND44 (power), P17 GND45 (power), R7 VCCPINT_6 (power), R8 GND46 (power), R9 VCCAUX_5 (power), R12 GND47 (power), R13 VCCINT_9 (power), R20 GND48 (power), T3 GND49 (power), T7 GND50 (power), T13 GND51 (power), U6 GND52 (power), U16 GND53 (power), V9 GND54 (power), V19 GND55 (power), W2 GND56 (power), W12 GND57 (power), Y5 GND58 (power), Y15 GND59 (power)
part A text: BANK 0
part B text: BANK 500; QSPI; SDIO
part C text: BANK 501; Ethernet 0 RGMII; USB0/ Ethernet1; USB1
part D text: BANK 502
part E text: BANK 13
part F text: BANK 34
part G text: BANK 35
part H text: PWR/GND